# EAGLE library part RJ45_45° (library mbed-microcontroller)
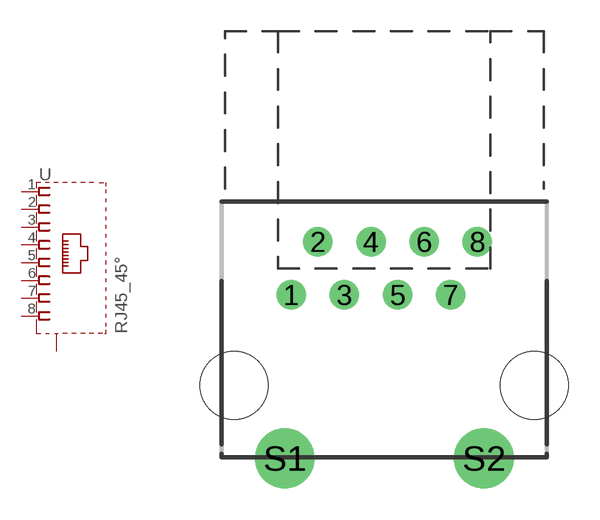
[diagram p8: symbol with the pads of RJ45; footprint RJ45]

Designator prefix -

## RJ45_45°  [RJ45]
1  1  pas
2  2  pas
3  3  pas
4  4  pas
5  5  pas
6  6  pas
7  7  pas
8  8  pas
S1  S  pas
S2  S  pas

## Footprint RJ45 (pad centres in mm)
drill 0.9 pad 1.4: 1 -4.445,0; 2 -3.175,2.54; 3 -1.905,0; 4 -0.635,2.54; 5 0.635,0; 6 1.905,2.54; 7 3.175,0; 8 4.445,2.54
drill 1.9 pad 2.5: S1 -4.76,-7.82; S2 4.76,-7.82
hole 3.251 at -7.175,-4.34
hole 3.251 at 7.175,-4.34